# EAGLE library part AN17-52 (library impellimax-drivers)
Please contact factory for your specific package and pinout needs. www.impellimax.com 603-886-9569
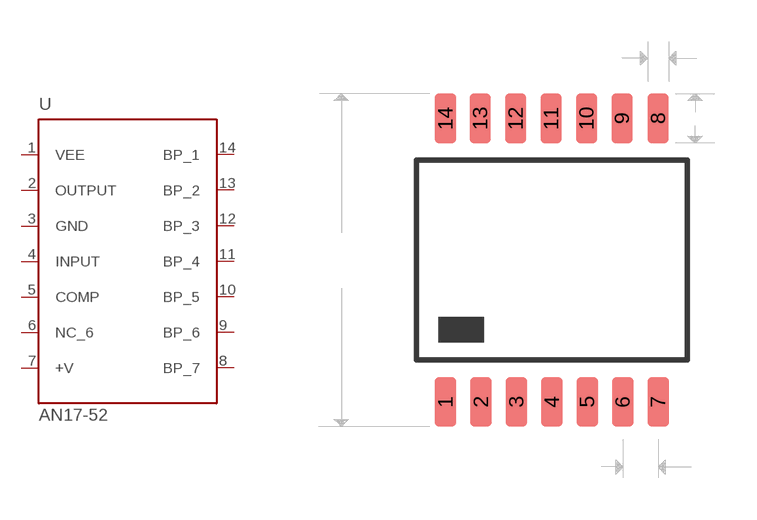
[diagram p31: symbol with the pads of 7429_C176; footprint 7429_C176]

Designator prefix U

## AN17-52  [7429_C176]
1  VEE  in
2  OUTPUT  in
3  GND  pas
4  INPUT  in
5  COMP  in
6  NC_6  in
7  +V  pas
8  BP_7  in
9  BP_6  in
10  BP_5  in
11  BP_4  in
12  BP_3  in
13  BP_2  in
14  BP_1  in

## Footprint 7429_C176 (pad centres in mm)
package .390 x .290 max. actual lead to lead length .440 max foot length .030, land pattern .070 lead width .016, land pattern width .030
smd 0.762 x 1.778: 1 -3.811,-5.082; 2 -2.541,-5.078; 3 -1.269,-5.08; 4 0.001,-5.083; 5 1.267,-5.08; 6 2.538,-5.083; 7 3.809,-5.08; 8 3.808,5.078; 9 2.513,5.078; 10 1.243,5.078; 11 -0.025,5.078; 12 -1.297,5.078; 13 -2.567,5.078; 14 -3.812,5.078